# Altium integrated library Resistors.IntLib: 4954 symbols (part 27 of 32)
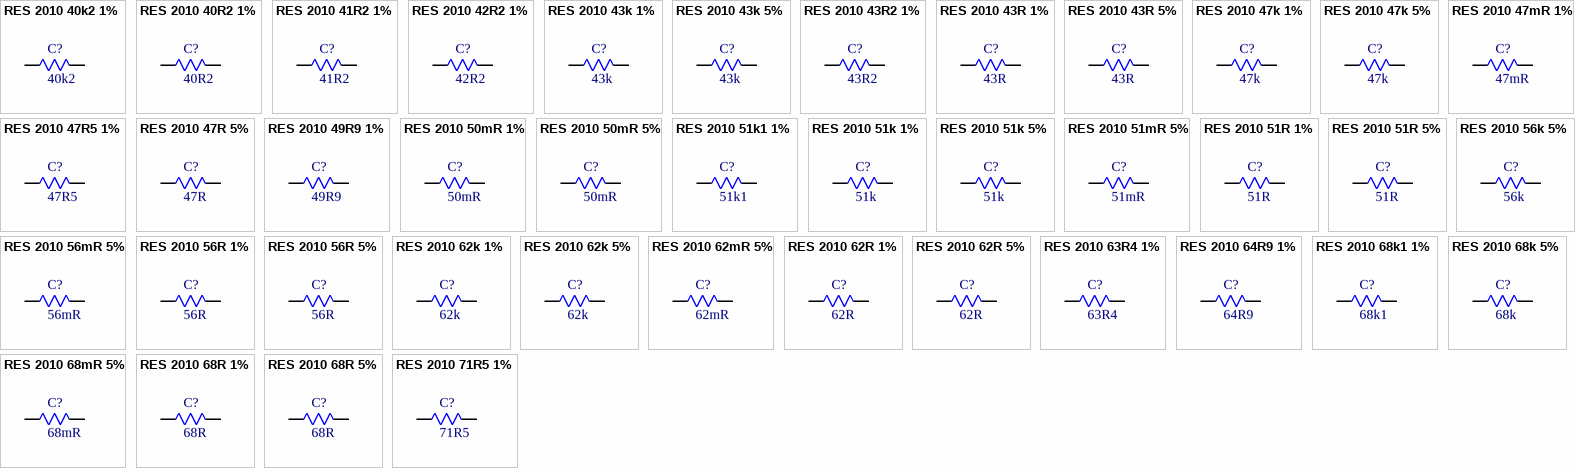
[diagram p149: symbols RES 2010 40k2 1% to RES 2010 71R5 1%]

## RES 2010 40k2 1%
designator C?, comment 40k2
40.2kR 1% 750mW 2010 Thick Film Resistor; Manufacturer: FOJAN; Manufacturer Part Number: FRC2010F4022TS; Voltage Rating: 200V; Supplier: LCSC; Supplier Part Number: C5154002; Resistance: 40k2; Tolerance: 1%; Power: 750mW
footprint RES SMD 2010
pins: 1, 2

## RES 2010 40R2 1%
designator C?, comment 40R2
750mW 40.2R 200V Thick Film Resistor 1% 2010 Chip Resistor - Surface Mount RoHS; Manufacturer: FOJAN; Manufacturer Part Number: FRC2010F40R2TS; Supplier: LCSC; Supplier Part Number: C51048332; Resistance: 40R2; Tolerance: 1%; Voltage Rating: 200V; Power: 750mW
footprint RES SMD 2010
pins: 1, 2

## RES 2010 41R2 1%
designator C?, comment 41R2
41.2R 1% 750mW 2010 Thick Film Resistor; Manufacturer: FOJAN; Manufacturer Part Number: FRC2010F41R2TS; Voltage Rating: 200V; Supplier: LCSC; Supplier Part Number: C3013308; Resistance: 41R2; Tolerance: 1%; Power: 750mW
footprint RES SMD 2010
pins: 1, 2

## RES 2010 42R2 1%
designator C?, comment 42R2
42.2R 750mW 200V Thick Film Resistor 100ppm/â„ƒ 1% 2010 Chip Resistor - Surface Mount RoHS; Manufacturer: FOJAN; Manufacturer Part Number: FRC2010F42R2TS; Supplier: LCSC; Supplier Part Number: C48533786; Resistance: 42R2; Tolerance: 1%; Voltage Rating: 200V; Power: 750mW
footprint RES SMD 2010
pins: 1, 2

## RES 2010 43k 1%
designator C?, comment 43k
43kR 1% 750mW 2010 Thick Film Resistor; Manufacturer: FOJAN; Manufacturer Part Number: FRC2010F4302TS; Voltage Rating: 200V; Supplier: LCSC; Supplier Part Number: C5713369; Resistance: 43k; Tolerance: 1%; Power: 750mW
footprint RES SMD 2010
pins: 1, 2

## RES 2010 43k 5%
designator C?, comment 43k
43kR 5% 750mW 2010 Thick Film Resistor; Manufacturer: FOJAN; Manufacturer Part Number: FRC2010J433 TS; Voltage Rating: 200V; Supplier: LCSC; Supplier Part Number: C5126030; Resistance: 43k; Tolerance: 5%; Power: 750mW
footprint RES SMD 2010
pins: 1, 2

## RES 2010 43R2 1%
designator C?, comment 43R2
43.2R 750mW 200V Thick Film Resistor 1% 2010 Chip Resistor - Surface Mount RoHS; Manufacturer: FOJAN; Manufacturer Part Number: FRC2010F43R2TS; Supplier: LCSC; Supplier Part Number: C51048132; Resistance: 43R2; Tolerance: 1%; Voltage Rating: 200V; Power: 750mW
footprint RES SMD 2010
pins: 1, 2

## RES 2010 43R 1%
designator C?, comment 43R
750mW 43R 200V Thick Film Resistor 1% 100ppm/â„ƒ 2010 Chip Resistor - Surface Mount RoHS; Manufacturer: FOJAN; Manufacturer Part Number: FRC2010F43R0TS; Supplier: LCSC; Supplier Part Number: C7467404; Resistance: 43R; Tolerance: 1%; Voltage Rating: 200V; Power: 750mW
footprint RES SMD 2010
pins: 1, 2

## RES 2010 43R 5%
designator C?, comment 43R
43R 5% 750mW 2010 Thick Film Resistor; Manufacturer: FOJAN; Manufacturer Part Number: FRC2010J430 TS; Voltage Rating: 200V; Supplier: LCSC; Supplier Part Number: C2960826; Resistance: 43R; Tolerance: 5%; Power: 750mW
footprint RES SMD 2010
pins: 1, 2

## RES 2010 47k 1%
designator C?, comment 47k
47kR 1% 750mW 2010 Thick Film Resistor; Manufacturer: FOJAN; Manufacturer Part Number: FRC2010F4702TS; Voltage Rating: 200V; Supplier: LCSC; Supplier Part Number: C3000551; Resistance: 47k; Tolerance: 1%; Power: 750mW
footprint RES SMD 2010
pins: 1, 2

## RES 2010 47k 5%
designator C?, comment 47k
47kR 5% 750mW 2010 Thick Film Resistor; Manufacturer: FOJAN; Manufacturer Part Number: FRC2010J473 TS; Voltage Rating: 200V; Supplier: LCSC; Supplier Part Number: C2960778; Resistance: 47k; Tolerance: 5%; Power: 750mW
footprint RES SMD 2010
pins: 1, 2

## RES 2010 47mR 1%
designator C?, comment 47mR
47mR 750mW Thick Film Resistor 1200ppm/â„ƒ 1% 2010 Chip Resistor - Surface Mount RoHS; Manufacturer: FOJAN; Manufacturer Part Number: FRL2010FR047TS; Supplier: LCSC; Supplier Part Number: C7467486; Resistance: 47mR; Tolerance: 1%; Power: 750mW
footprint RES SMD 2010
pins: 1, 2

## RES 2010 47R5 1%
designator C?, comment 47R5
750mW 47.5R 200V Thick Film Resistor 1% 2010 Chip Resistor - Surface Mount RoHS; Manufacturer: FOJAN; Manufacturer Part Number: FRC2010F47R5TS; Supplier: LCSC; Supplier Part Number: C51048230; Resistance: 47R5; Tolerance: 1%; Voltage Rating: 200V; Power: 750mW
footprint RES SMD 2010
pins: 1, 2

## RES 2010 47R 5%
designator C?, comment 47R
47R 5% 750mW 2010 Thick Film Resistor; Manufacturer: FOJAN; Manufacturer Part Number: FRC2010J470 TS; Voltage Rating: 200V; Supplier: LCSC; Supplier Part Number: C2960940; Resistance: 47R; Tolerance: 5%; Power: 750mW
footprint RES SMD 2010
pins: 1, 2

## RES 2010 49R9 1%
designator C?, comment 49R9
49.9R 750mW 200V Thick Film Resistor 1% 100ppm/â„ƒ 2010 Chip Resistor - Surface Mount RoHS; Manufacturer: FOJAN; Manufacturer Part Number: FRC2010F49R9TS; Supplier: LCSC; Supplier Part Number: C7467405; Resistance: 49R9; Tolerance: 1%; Voltage Rating: 200V; Power: 750mW
footprint RES SMD 2010
pins: 1, 2

## RES 2010 50mR 1%
designator C?, comment 50mR
50mR 750mW Thick Film Resistor 1200ppm/â„ƒ 1% 2010 Chip Resistor - Surface Mount RoHS; Manufacturer: FOJAN; Manufacturer Part Number: FRL2010FR050TS; Supplier: LCSC; Supplier Part Number: C7467560; Resistance: 50mR; Tolerance: 1%; Power: 750mW
footprint RES SMD 2010
pins: 1, 2

## RES 2010 50mR 5%
designator C?, comment 50mR
50mR 5% 750mW 2010 Thick Film Resistor; Manufacturer: FOJAN; Manufacturer Part Number: FRL2010JR050TS; Voltage Rating: 500V; Supplier: LCSC; Supplier Part Number: C3000579; Resistance: 50mR; Tolerance: 5%; Power: 750mW
footprint RES SMD 2010
pins: 1, 2

## RES 2010 51k1 1%
designator C?, comment 51k1
51.1kR 750mW 200V Thick Film Resistor 1% 100ppm/â„ƒ 2010 Chip Resistor - Surface Mount RoHS; Manufacturer: FOJAN; Manufacturer Part Number: FRC2010F5112TS; Supplier: LCSC; Supplier Part Number: C7467350; Resistance: 51k1; Tolerance: 1%; Voltage Rating: 200V; Power: 750mW
footprint RES SMD 2010
pins: 1, 2

## RES 2010 51k 1%
designator C?, comment 51k
750mW 51kR 200V Thick Film Resistor 1% 2010 Chip Resistor - Surface Mount RoHS; Manufacturer: FOJAN; Manufacturer Part Number: FRC2010F5102TS; Supplier: LCSC; Supplier Part Number: C51048225; Resistance: 51k; Tolerance: 1%; Voltage Rating: 200V; Power: 750mW
footprint RES SMD 2010
pins: 1, 2

## RES 2010 51k 5%
designator C?, comment 51k
51kR 5% 750mW 2010 Thick Film Resistor; Manufacturer: FOJAN; Manufacturer Part Number: FRC2010J513 TS; Voltage Rating: 200V; Supplier: LCSC; Supplier Part Number: C2934033; Resistance: 51k; Tolerance: 5%; Power: 750mW
footprint RES SMD 2010
pins: 1, 2

## RES 2010 51mR 5%
designator C?, comment 51mR
51mR 5% 750mW 2010 Thick Film Resistor; Manufacturer: FOJAN; Manufacturer Part Number: FRL2010JR051TS; Voltage Rating: 500V; Supplier: LCSC; Supplier Part Number: C5713408; Resistance: 51mR; Tolerance: 5%; Power: 750mW
footprint RES SMD 2010
pins: 1, 2

## RES 2010 51R 1%
designator C?, comment 51R
51R 1% 750mW 2010 Thick Film Resistor; Manufacturer: FOJAN; Manufacturer Part Number: FRC2010F51R0TS; Voltage Rating: 200V; Supplier: LCSC; Supplier Part Number: C3000766; Resistance: 51R; Tolerance: 1%; Power: 750mW
footprint RES SMD 2010
pins: 1, 2

## RES 2010 51R 5%
designator C?, comment 51R
51R 5% 750mW 2010 Thick Film Resistor; Manufacturer: FOJAN; Manufacturer Part Number: FRC2010J510TS; Voltage Rating: 200V; Supplier: LCSC; Supplier Part Number: C2930454; Resistance: 51R; Tolerance: 5%; Power: 750mW
footprint RES SMD 2010
pins: 1, 2

## RES 2010 56k 5%
designator C?, comment 56k
56kR 5% 750mW 2010 Thick Film Resistor; Manufacturer: FOJAN; Manufacturer Part Number: FRC2010J563 TS; Voltage Rating: 200V; Supplier: LCSC; Supplier Part Number: C2960817; Resistance: 56k; Tolerance: 5%; Power: 750mW
footprint RES SMD 2010
pins: 1, 2

## RES 2010 56mR 5%
designator C?, comment 56mR
56mR 5% 750mW 2010 Thick Film Resistor; Manufacturer: FOJAN; Manufacturer Part Number: FRL2010JR056TS; Voltage Rating: 500V; Supplier: LCSC; Supplier Part Number: C3000578; Resistance: 56mR; Tolerance: 5%; Power: 750mW
footprint RES SMD 2010
pins: 1, 2

## RES 2010 56R 1%
designator C?, comment 56R
56R 750mW 200V Thick Film Resistor 1% 100ppm/â„ƒ 2010 Chip Resistor - Surface Mount RoHS; Manufacturer: FOJAN; Manufacturer Part Number: FRC2010F56R0TS; Supplier: LCSC; Supplier Part Number: C7467351; Resistance: 56R; Tolerance: 1%; Voltage Rating: 200V; Power: 750mW
footprint RES SMD 2010
pins: 1, 2

## RES 2010 56R 5%
designator C?, comment 56R
56R 5% 750mW 2010 Thick Film Resistor; Manufacturer: FOJAN; Manufacturer Part Number: FRC2010J560TS; Voltage Rating: 200V; Supplier: LCSC; Supplier Part Number: C2930455; Resistance: 56R; Tolerance: 5%; Power: 750mW
footprint RES SMD 2010
pins: 1, 2

## RES 2010 62k 1%
designator C?, comment 62k
750mW 62kR 200V Thick Film Resistor 1% 2010 Chip Resistor - Surface Mount RoHS; Manufacturer: FOJAN; Manufacturer Part Number: FRC2010F6202TS; Supplier: LCSC; Supplier Part Number: C51048130; Resistance: 62k; Tolerance: 1%; Voltage Rating: 200V; Power: 750mW
footprint RES SMD 2010
pins: 1, 2

## RES 2010 62k 5%
designator C?, comment 62k
62kR 5% 750mW 2010 Thick Film Resistor; Manufacturer: FOJAN; Manufacturer Part Number: FRC2010J623 TS; Voltage Rating: 200V; Supplier: LCSC; Supplier Part Number: C5713373; Resistance: 62k; Tolerance: 5%; Power: 750mW
footprint RES SMD 2010
pins: 1, 2

## RES 2010 62mR 5%
designator C?, comment 62mR
62mR 5% 750mW 2010 Thick Film Resistor; Manufacturer: FOJAN; Manufacturer Part Number: FRL2010JR062TS; Voltage Rating: 500V; Supplier: LCSC; Supplier Part Number: C5713409; Resistance: 62mR; Tolerance: 5%; Power: 750mW
footprint RES SMD 2010
pins: 1, 2

## RES 2010 62R 1%
designator C?, comment 62R
62R 1% 750mW 2010 Thick Film Resistor; Manufacturer: FOJAN; Manufacturer Part Number: FRC2010F62R0TS; Voltage Rating: 200V; Supplier: LCSC; Supplier Part Number: C2933990; Resistance: 62R; Tolerance: 1%; Power: 750mW
footprint RES SMD 2010
pins: 1, 2

## RES 2010 62R 5%
designator C?, comment 62R
62R 5% 750mW 2010 Thick Film Resistor; Manufacturer: FOJAN; Manufacturer Part Number: FRC2010J620TS; Voltage Rating: 200V; Supplier: LCSC; Supplier Part Number: C3000680; Resistance: 62R; Tolerance: 5%; Power: 750mW
footprint RES SMD 2010
pins: 1, 2

## RES 2010 63R4 1%
designator C?, comment 63R4
63.4R 1% 750mW 2010 Thick Film Resistor; Manufacturer: FOJAN; Manufacturer Part Number: FRC2010F63R4TS; Voltage Rating: 200V; Supplier: LCSC; Supplier Part Number: C2933991; Resistance: 63R4; Tolerance: 1%; Power: 750mW
footprint RES SMD 2010
pins: 1, 2

## RES 2010 64R9 1%
designator C?, comment 64R9
750mW 64.9R 200V Thick Film Resistor 1% 2010 Chip Resistor - Surface Mount RoHS; Manufacturer: FOJAN; Manufacturer Part Number: FRC2010F64R9TS; Supplier: LCSC; Supplier Part Number: C51048207; Resistance: 64R9; Tolerance: 1%; Voltage Rating: 200V; Power: 750mW
footprint RES SMD 2010
pins: 1, 2

## RES 2010 68k1 1%
designator C?, comment 68k1
68.1kR 1% 750mW 2010 Thick Film Resistor; Manufacturer: FOJAN; Manufacturer Part Number: FRC2010F6812TS; Voltage Rating: 200V; Supplier: LCSC; Supplier Part Number: C42372195; Resistance: 68k1; Tolerance: 1%; Power: 750mW
footprint RES SMD 2010
pins: 1, 2

## RES 2010 68k 5%
designator C?, comment 68k
68kR 5% 750mW 2010 Thick Film Resistor; Manufacturer: FOJAN; Manufacturer Part Number: FRC2010J683TS; Voltage Rating: 200V; Supplier: LCSC; Supplier Part Number: C3000707; Resistance: 68k; Tolerance: 5%; Power: 750mW
footprint RES SMD 2010
pins: 1, 2

## RES 2010 68mR 5%
designator C?, comment 68mR
68mR 5% 750mW 2010 Thick Film Resistor; Manufacturer: FOJAN; Manufacturer Part Number: FRL2010JR068TS; Voltage Rating: 500V; Supplier: LCSC; Supplier Part Number: C2974128; Resistance: 68mR; Tolerance: 5%; Power: 750mW
footprint RES SMD 2010
pins: 1, 2

## RES 2010 68R 1%
designator C?, comment 68R
68R 1% 750mW 2010 Thick Film Resistor; Manufacturer: FOJAN; Manufacturer Part Number: FRC2010F68R0TS; Voltage Rating: 200V; Supplier: LCSC; Supplier Part Number: C3000767; Resistance: 68R; Tolerance: 1%; Power: 750mW
footprint RES SMD 2010
pins: 1, 2

## RES 2010 68R 5%
designator C?, comment 68R
68R 5% 750mW 2010 Thick Film Resistor; Manufacturer: FOJAN; Manufacturer Part Number: FRC2010J680 TS; Voltage Rating: 200V; Supplier: LCSC; Supplier Part Number: C2907565; Resistance: 68R; Tolerance: 5%; Power: 750mW
footprint RES SMD 2010
pins: 1, 2

## RES 2010 71R5 1%
designator C?, comment 71R5
71.5R 1% 750mW 2010 Thick Film Resistor; Manufacturer: FOJAN; Manufacturer Part Number: FRC2010F71R5TS; Voltage Rating: 200V; Supplier: LCSC; Supplier Part Number: C3013312; Resistance: 71R5; Tolerance: 1%; Power: 750mW
footprint RES SMD 2010
pins: 1, 2

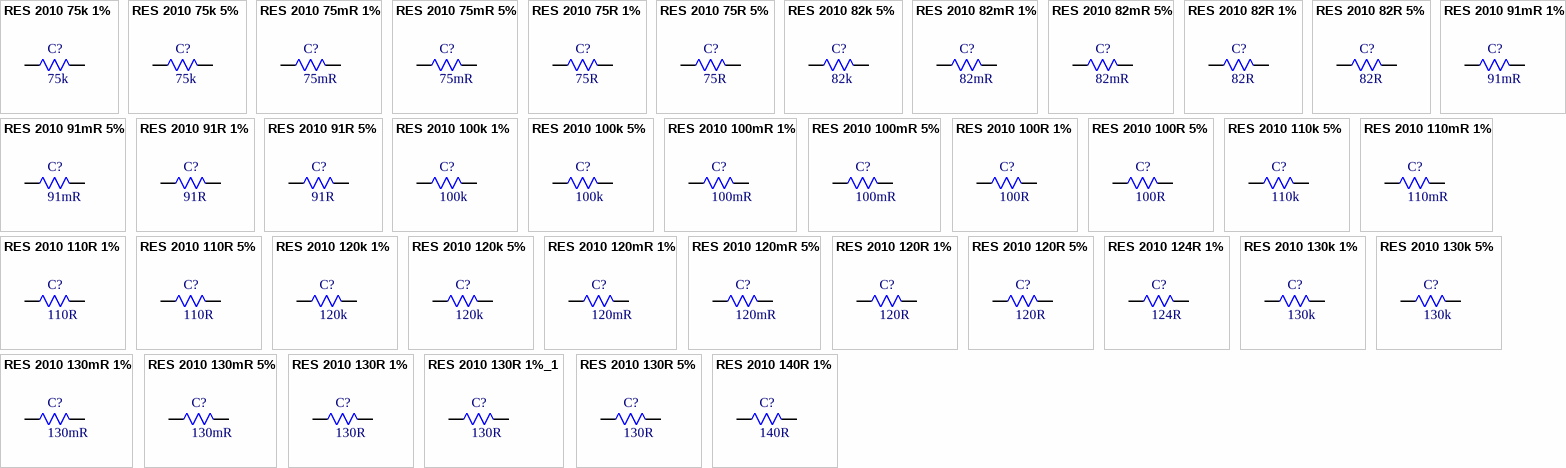
[diagram p105: symbols RES 2010 75k 1% to RES 2010 140R 1%]

## RES 2010 75k 1%
designator C?, comment 75k
750mW 75kR 200V Thick Film Resistor 100ppm/â„ƒ 1% 2010 Chip Resistor - Surface Mount RoHS; Manufacturer: FOJAN; Manufacturer Part Number: FRC2010F7502TS; Supplier: LCSC; Supplier Part Number: C48533782; Resistance: 75k; Tolerance: 1%; Voltage Rating: 200V; Power: 750mW
footprint RES SMD 2010
pins: 1, 2

## RES 2010 75k 5%
designator C?, comment 75k
75kR 5% 750mW 2010 Thick Film Resistor; Manufacturer: FOJAN; Manufacturer Part Number: FRC2010J753 TS; Voltage Rating: 200V; Supplier: LCSC; Supplier Part Number: C2934039; Resistance: 75k; Tolerance: 5%; Power: 750mW
footprint RES SMD 2010
pins: 1, 2

## RES 2010 75mR 1%
designator C?, comment 75mR
75mR 1% 750mW 2010 Thick Film Resistor; Manufacturer: FOJAN; Manufacturer Part Number: FRL2010FR075TS; Voltage Rating: 500V; Supplier: LCSC; Supplier Part Number: C5204050; Resistance: 75mR; Tolerance: 1%; Power: 750mW
footprint RES SMD 2010
pins: 1, 2

## RES 2010 75mR 5%
designator C?, comment 75mR
75mR 5% 750mW 2010 Thick Film Resistor; Manufacturer: FOJAN; Manufacturer Part Number: FRL2010JR075TS; Voltage Rating: 500V; Supplier: LCSC; Supplier Part Number: C5713410; Resistance: 75mR; Tolerance: 5%; Power: 750mW
footprint RES SMD 2010
pins: 1, 2

## RES 2010 75R 1%
designator C?, comment 75R
75R 1% 750mW 2010 Thick Film Resistor; Manufacturer: FOJAN; Manufacturer Part Number: FRC2010F75R0TS; Voltage Rating: 200V; Supplier: LCSC; Supplier Part Number: C2933992; Resistance: 75R; Tolerance: 1%; Power: 750mW
footprint RES SMD 2010
pins: 1, 2

## RES 2010 75R 5%
designator C?, comment 75R
75R 5% 750mW 2010 Thick Film Resistor; Manufacturer: FOJAN; Manufacturer Part Number: FRC2010J750 TS; Voltage Rating: 200V; Supplier: LCSC; Supplier Part Number: C3013317; Resistance: 75R; Tolerance: 5%; Power: 750mW
footprint RES SMD 2010
pins: 1, 2

## RES 2010 82k 5%
designator C?, comment 82k
82kR 5% 750mW 2010 Thick Film Resistor; Manufacturer: FOJAN; Manufacturer Part Number: FRC2010J823 TS; Voltage Rating: 200V; Supplier: LCSC; Supplier Part Number: C2960908; Resistance: 82k; Tolerance: 5%; Power: 750mW
footprint RES SMD 2010
pins: 1, 2

## RES 2010 82mR 1%
designator C?, comment 82mR
82mR 750mW Thick Film Resistor 600ppm/â„ƒ 1% 2010 Chip Resistor - Surface Mount RoHS; Manufacturer: FOJAN; Manufacturer Part Number: FRL2010FR082TS; Supplier: LCSC; Supplier Part Number: C7467699; Resistance: 82mR; Tolerance: 1%; Power: 750mW
footprint RES SMD 2010
pins: 1, 2

## RES 2010 82mR 5%
designator C?, comment 82mR
82mR 5% 750mW 2010 Thick Film Resistor; Manufacturer: FOJAN; Manufacturer Part Number: FRL2010JR082TS; Voltage Rating: 500V; Supplier: LCSC; Supplier Part Number: C5126035; Resistance: 82mR; Tolerance: 5%; Power: 750mW
footprint RES SMD 2010
pins: 1, 2

## RES 2010 82R 1%
designator C?, comment 82R
82R 1% 750mW 2010 Thick Film Resistor; Manufacturer: FOJAN; Manufacturer Part Number: FRC2010F82R0TS; Voltage Rating: 200V; Supplier: LCSC; Supplier Part Number: C3000556; Resistance: 82R; Tolerance: 1%; Power: 750mW
footprint RES SMD 2010
pins: 1, 2

## RES 2010 82R 5%
designator C?, comment 82R
82R 5% 750mW 2010 Thick Film Resistor; Manufacturer: FOJAN; Manufacturer Part Number: FRC2010J820TS; Voltage Rating: 200V; Supplier: LCSC; Supplier Part Number: C3000624; Resistance: 82R; Tolerance: 5%; Power: 750mW
footprint RES SMD 2010
pins: 1, 2

## RES 2010 91mR 1%
designator C?, comment 91mR
750mW 91mR Thick Film Resistor 600ppm/â„ƒ 1% 2010 Chip Resistor - Surface Mount RoHS; Manufacturer: FOJAN; Manufacturer Part Number: FRL2010FR091TS; Supplier: LCSC; Supplier Part Number: C7467687; Resistance: 91mR; Tolerance: 1%; Power: 750mW
footprint RES SMD 2010
pins: 1, 2

## RES 2010 91mR 5%
designator C?, comment 91mR
91mR 5% 750mW 2010 Thick Film Resistor; Manufacturer: FOJAN; Manufacturer Part Number: FRL2010JR091TS; Voltage Rating: 500V; Supplier: LCSC; Supplier Part Number: C2974129; Resistance: 91mR; Tolerance: 5%; Power: 750mW
footprint RES SMD 2010
pins: 1, 2

## RES 2010 91R 1%
designator C?, comment 91R
91R 750mW 200V Thick Film Resistor 100ppm/â„ƒ 1% 2010 Chip Resistor - Surface Mount RoHS; Manufacturer: FOJAN; Manufacturer Part Number: FRC2010F91R0TS; Supplier: LCSC; Supplier Part Number: C19267407; Resistance: 91R; Tolerance: 1%; Voltage Rating: 200V; Power: 750mW
footprint RES SMD 2010
pins: 1, 2

## RES 2010 91R 5%
designator C?, comment 91R
91R 5% 750mW 2010 Thick Film Resistor; Manufacturer: FOJAN; Manufacturer Part Number: FRC2010J910 TS; Voltage Rating: 200V; Supplier: LCSC; Supplier Part Number: C2934041; Resistance: 91R; Tolerance: 5%; Power: 750mW
footprint RES SMD 2010
pins: 1, 2

## RES 2010 100k 1%
designator C?, comment 100k
100kR 1% 750mW 2010 Thick Film Resistor; Manufacturer: FOJAN; Manufacturer Part Number: FRC2010F1003TS; Voltage Rating: 200V; Supplier: LCSC; Supplier Part Number: C2974088; Resistance: 100k; Tolerance: 1%; Power: 750mW
footprint RES SMD 2010
pins: 1, 2

## RES 2010 100k 5%
designator C?, comment 100k
100kR 5% 750mW 2010 Thick Film Resistor; Manufacturer: FOJAN; Manufacturer Part Number: FRC2010J104 TS; Voltage Rating: 200V; Supplier: LCSC; Supplier Part Number: C2907557; Resistance: 100k; Tolerance: 5%; Power: 750mW
footprint RES SMD 2010
pins: 1, 2

## RES 2010 100mR 1%
designator C?, comment 100mR
100mR 1% 750mW 2010 Thick Film Resistor; Manufacturer: FOJAN; Manufacturer Part Number: FRL2010FR100TS; Voltage Rating: 500V; Supplier: LCSC; Supplier Part Number: C2999624; Resistance: 100mR; Tolerance: 1%; Power: 750mW
footprint RES SMD 2010
pins: 1, 2

## RES 2010 100mR 5%
designator C?, comment 100mR
100mR 5% 750mW 2010 Thick Film Resistor; Manufacturer: FOJAN; Manufacturer Part Number: FRL2010JR100TS; Voltage Rating: 500V; Supplier: LCSC; Supplier Part Number: C2934356; Resistance: 100mR; Tolerance: 5%; Power: 750mW
footprint RES SMD 2010
pins: 1, 2

## RES 2010 100R 1%
designator C?, comment 100R
100R 1% 750mW 2010 Thick Film Resistor; Manufacturer: FOJAN; Manufacturer Part Number: FRC2010F1000TS; Voltage Rating: 200V; Supplier: LCSC; Supplier Part Number: C2974086; Resistance: 100R; Tolerance: 1%; Power: 750mW
footprint RES SMD 2010
pins: 1, 2

## RES 2010 100R 5%
designator C?, comment 100R
100R 5% 750mW 2010 Thick Film Resistor; Manufacturer: FOJAN; Manufacturer Part Number: FRC2010J101 TS; Voltage Rating: 200V; Supplier: LCSC; Supplier Part Number: C2907558; Resistance: 100R; Tolerance: 5%; Power: 750mW
footprint RES SMD 2010
pins: 1, 2

## RES 2010 110k 5%
designator C?, comment 110k
110kR 5% 750mW 2010 Thick Film Resistor; Manufacturer: FOJAN; Manufacturer Part Number: FRC2010J114TS; Voltage Rating: 200V; Supplier: LCSC; Supplier Part Number: C5379848; Resistance: 110k; Tolerance: 5%; Power: 750mW
footprint RES SMD 2010
pins: 1, 2

## RES 2010 110mR 1%
designator C?, comment 110mR
110mR 1% 750mW 2010 Thick Film Resistor; Manufacturer: FOJAN; Manufacturer Part Number: FRL2010FR110TS; Voltage Rating: 500V; Supplier: LCSC; Supplier Part Number: C2934351; Resistance: 110mR; Tolerance: 1%; Power: 750mW
footprint RES SMD 2010
pins: 1, 2

## RES 2010 110R 1%
designator C?, comment 110R
110R 1% 750mW 2010 Thick Film Resistor; Manufacturer: FOJAN; Manufacturer Part Number: FRC2010F1100TS; Voltage Rating: 200V; Supplier: LCSC; Supplier Part Number: C2960847; Resistance: 110R; Tolerance: 1%; Power: 750mW
footprint RES SMD 2010
pins: 1, 2

## RES 2010 110R 5%
designator C?, comment 110R
110R 5% 750mW 2010 Thick Film Resistor; Manufacturer: FOJAN; Manufacturer Part Number: FRC2010J111 TS; Voltage Rating: 200V; Supplier: LCSC; Supplier Part Number: C3013313; Resistance: 110R; Tolerance: 5%; Power: 750mW
footprint RES SMD 2010
pins: 1, 2

## RES 2010 120k 1%
designator C?, comment 120k
120kR 1% 750mW 2010 Thick Film Resistor; Manufacturer: FOJAN; Manufacturer Part Number: FRC2010F1203TS; Voltage Rating: 200V; Supplier: LCSC; Supplier Part Number: C2933979; Resistance: 120k; Tolerance: 1%; Power: 750mW
footprint RES SMD 2010
pins: 1, 2

## RES 2010 120k 5%
designator C?, comment 120k
120kR 5% 750mW 2010 Thick Film Resistor; Manufacturer: FOJAN; Manufacturer Part Number: FRC2010J124 TS; Voltage Rating: 200V; Supplier: LCSC; Supplier Part Number: C2933996; Resistance: 120k; Tolerance: 5%; Power: 750mW
footprint RES SMD 2010
pins: 1, 2

## RES 2010 120mR 1%
designator C?, comment 120mR
120mR 1% 750mW 2010 Thick Film Resistor; Manufacturer: FOJAN; Manufacturer Part Number: FRL2010FR120TS; Voltage Rating: 500V; Supplier: LCSC; Supplier Part Number: C3000597; Resistance: 120mR; Tolerance: 1%; Power: 750mW
footprint RES SMD 2010
pins: 1, 2

## RES 2010 120mR 5%
designator C?, comment 120mR
120mR 5% 750mW 2010 Thick Film Resistor; Manufacturer: FOJAN; Manufacturer Part Number: FRL2010JR120TS; Voltage Rating: 500V; Supplier: LCSC; Supplier Part Number: C3000625; Resistance: 120mR; Tolerance: 5%; Power: 750mW
footprint RES SMD 2010
pins: 1, 2

## RES 2010 120R 1%
designator C?, comment 120R
120R 1% 750mW 2010 Thick Film Resistor; Manufacturer: FOJAN; Manufacturer Part Number: FRC2010F1200TS; Voltage Rating: 200V; Supplier: LCSC; Supplier Part Number: C2974089; Resistance: 120R; Tolerance: 1%; Power: 750mW
footprint RES SMD 2010
pins: 1, 2

## RES 2010 120R 5%
designator C?, comment 120R
120R 5% 750mW 2010 Thick Film Resistor; Manufacturer: FOJAN; Manufacturer Part Number: FRC2010J121 TS; Voltage Rating: 200V; Supplier: LCSC; Supplier Part Number: C2960839; Resistance: 120R; Tolerance: 5%; Power: 750mW
footprint RES SMD 2010
pins: 1, 2

## RES 2010 124R 1%
designator C?, comment 124R
124R 1% 750mW 2010 Thick Film Resistor; Manufacturer: FOJAN; Manufacturer Part Number: FRC2010F1240TS; Voltage Rating: 200V; Supplier: LCSC; Supplier Part Number: C5159753; Resistance: 124R; Tolerance: 1%; Power: 750mW
footprint RES SMD 2010
pins: 1, 2

## RES 2010 130k 1%
designator C?, comment 130k
130kR 1% 750mW 2010 Thick Film Resistor; Manufacturer: FOJAN; Manufacturer Part Number: FRC2010F1303TS; Voltage Rating: 200V; Supplier: LCSC; Supplier Part Number: C5713362; Resistance: 130k; Tolerance: 1%; Power: 750mW
footprint RES SMD 2010
pins: 1, 2

## RES 2010 130k 5%
designator C?, comment 130k
130kR 5% 750mW 2010 Thick Film Resistor; Manufacturer: FOJAN; Manufacturer Part Number: FRC2010J134 TS; Voltage Rating: 200V; Supplier: LCSC; Supplier Part Number: C5126186; Resistance: 130k; Tolerance: 5%; Power: 750mW
footprint RES SMD 2010
pins: 1, 2

## RES 2010 130mR 1%
designator C?, comment 130mR
130mR 1% 750mW 2010 Thick Film Resistor; Manufacturer: FOJAN; Manufacturer Part Number: FRL2010FR130TS; Voltage Rating: 500V; Supplier: LCSC; Supplier Part Number: C2999525; Resistance: 130mR; Tolerance: 1%; Power: 750mW
footprint RES SMD 2010
pins: 1, 2

## RES 2010 130mR 5%
designator C?, comment 130mR
130mR 5% 750mW 2010 Thick Film Resistor; Manufacturer: FOJAN; Manufacturer Part Number: FRL2010JR130TS; Voltage Rating: 500V; Supplier: LCSC; Supplier Part Number: C2934357; Resistance: 130mR; Tolerance: 5%; Power: 750mW
footprint RES SMD 2010
pins: 1, 2

## RES 2010 130R 1%
designator C?, comment 130R
750mW 130R 200V Thick Film Resistor 1% 2010 Chip Resistor - Surface Mount RoHS; Manufacturer: FOJAN; Manufacturer Part Number: FRQ2010F1300TS; Supplier: LCSC; Supplier Part Number: C51048296; Resistance: 130R; Tolerance: 1%; Voltage Rating: 200V; Power: 750mW
footprint RES SMD 2010
pins: 1, 2

## RES 2010 130R 1%_1
designator C?, comment 130R
130R 1% 750mW 2010 Thick Film Resistor; Manufacturer: FOJAN; Manufacturer Part Number: FRC2010F1300TS; Voltage Rating: 200V; Supplier: LCSC; Supplier Part Number: C2933980; Resistance: 130R; Tolerance: 1%; Power: 750mW
footprint RES SMD 2010
pins: 1, 2

## RES 2010 130R 5%
designator C?, comment 130R
130R 5% 750mW 2010 Thick Film Resistor; Manufacturer: FOJAN; Manufacturer Part Number: FRC2010J131 TS; Voltage Rating: 200V; Supplier: LCSC; Supplier Part Number: C2933997; Resistance: 130R; Tolerance: 5%; Power: 750mW
footprint RES SMD 2010
pins: 1, 2

## RES 2010 140R 1%
designator C?, comment 140R
750mW 140R 200V Thick Film Resistor 1% 2010 Chip Resistor - Surface Mount RoHS; Manufacturer: FOJAN; Manufacturer Part Number: FRC2010F1400TS; Supplier: LCSC; Supplier Part Number: C51048134; Resistance: 140R; Tolerance: 1%; Voltage Rating: 200V; Power: 750mW
footprint RES SMD 2010
pins: 1, 2

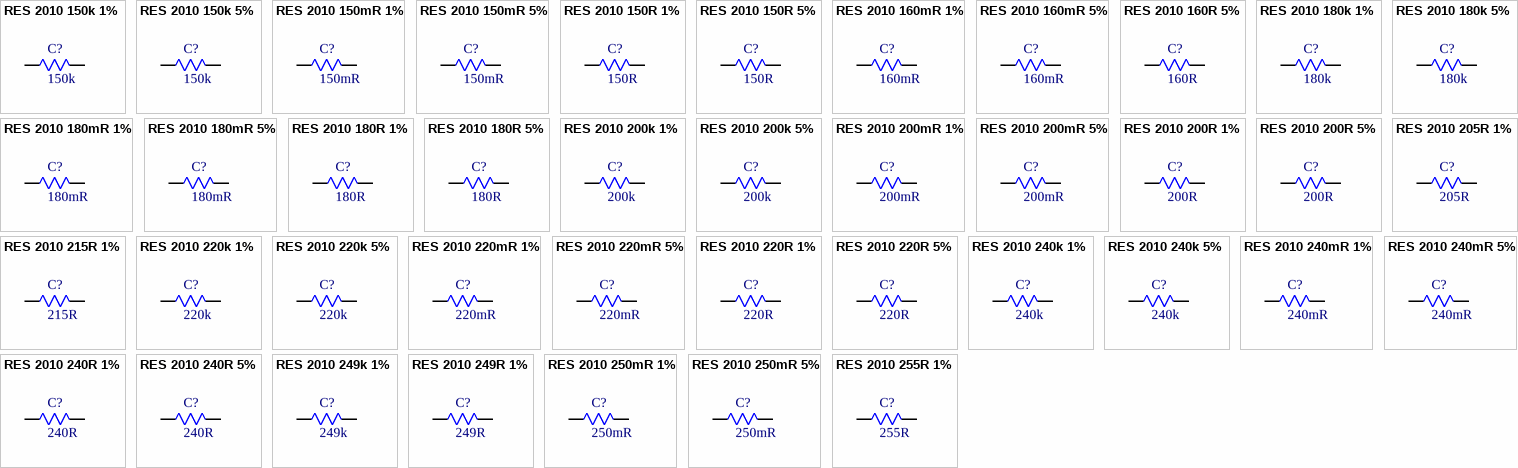
[diagram p106: symbols RES 2010 150k 1% to RES 2010 255R 1%]

## RES 2010 150k 1%
designator C?, comment 150k
150kR 1% 750mW 2010 Thick Film Resistor; Manufacturer: FOJAN; Manufacturer Part Number: FRC2010F1503TS; Voltage Rating: 200V; Supplier: LCSC; Supplier Part Number: C2933983; Resistance: 150k; Tolerance: 1%; Power: 750mW
footprint RES SMD 2010
pins: 1, 2

## RES 2010 150k 5%
designator C?, comment 150k
150kR 5% 750mW 2010 Thick Film Resistor; Manufacturer: FOJAN; Manufacturer Part Number: FRC2010J154 TS; Voltage Rating: 200V; Supplier: LCSC; Supplier Part Number: C2933999; Resistance: 150k; Tolerance: 5%; Power: 750mW
footprint RES SMD 2010
pins: 1, 2

## RES 2010 150mR 1%
designator C?, comment 150mR
150mR 1% 750mW 2010 Thick Film Resistor; Manufacturer: FOJAN; Manufacturer Part Number: FRL2010FR150TS; Voltage Rating: 500V; Supplier: LCSC; Supplier Part Number: C5126190; Resistance: 150mR; Tolerance: 1%; Power: 750mW
footprint RES SMD 2010
pins: 1, 2

## RES 2010 150mR 5%
designator C?, comment 150mR
150mR 5% 750mW 2010 Thick Film Resistor; Manufacturer: FOJAN; Manufacturer Part Number: FRL2010JR150TS; Voltage Rating: 500V; Supplier: LCSC; Supplier Part Number: C2960694; Resistance: 150mR; Tolerance: 5%; Power: 750mW
footprint RES SMD 2010
pins: 1, 2

## RES 2010 150R 1%
designator C?, comment 150R
150R 1% 750mW 2010 Thick Film Resistor; Manufacturer: FOJAN; Manufacturer Part Number: FRC2010F1500TS; Voltage Rating: 200V; Supplier: LCSC; Supplier Part Number: C2933982; Resistance: 150R; Tolerance: 1%; Power: 750mW
footprint RES SMD 2010
pins: 1, 2

## RES 2010 150R 5%
designator C?, comment 150R
150R 5% 750mW 2010 Thick Film Resistor; Manufacturer: FOJAN; Manufacturer Part Number: FRC2010J151 TS; Voltage Rating: 200V; Supplier: LCSC; Supplier Part Number: C2933998; Resistance: 150R; Tolerance: 5%; Power: 750mW
footprint RES SMD 2010
pins: 1, 2

## RES 2010 160mR 1%
designator C?, comment 160mR
160mR 750mW Thick Film Resistor 600ppm/â„ƒ 1% 2010 Chip Resistor - Surface Mount RoHS; Manufacturer: FOJAN; Manufacturer Part Number: FRL2010FR160TS; Supplier: LCSC; Supplier Part Number: C7467852; Resistance: 160mR; Tolerance: 1%; Power: 750mW
footprint RES SMD 2010
pins: 1, 2

## RES 2010 160mR 5%
designator C?, comment 160mR
160mR 5% 750mW 2010 Thick Film Resistor; Manufacturer: FOJAN; Manufacturer Part Number: FRL2010JR160TS; Voltage Rating: 500V; Supplier: LCSC; Supplier Part Number: C3013367; Resistance: 160mR; Tolerance: 5%; Power: 750mW
footprint RES SMD 2010
pins: 1, 2

## RES 2010 160R 5%
designator C?, comment 160R
160R 5% 750mW 2010 Thick Film Resistor; Manufacturer: FOJAN; Manufacturer Part Number: FRC2010J161 TS; Voltage Rating: 200V; Supplier: LCSC; Supplier Part Number: C2934001; Resistance: 160R; Tolerance: 5%; Power: 750mW
footprint RES SMD 2010
pins: 1, 2

## RES 2010 180k 1%
designator C?, comment 180k
180kR 1% 750mW 2010 Thick Film Resistor; Manufacturer: FOJAN; Manufacturer Part Number: FRC2010F1803TS; Voltage Rating: 200V; Supplier: LCSC; Supplier Part Number: C3013301; Resistance: 180k; Tolerance: 1%; Power: 750mW
footprint RES SMD 2010
pins: 1, 2

## RES 2010 180k 5%
designator C?, comment 180k
180kR 5% 750mW 2010 Thick Film Resistor; Manufacturer: FOJAN; Manufacturer Part Number: FRC2010J184 TS; Voltage Rating: 200V; Supplier: LCSC; Supplier Part Number: C2934004; Resistance: 180k; Tolerance: 5%; Power: 750mW
footprint RES SMD 2010
pins: 1, 2

## RES 2010 180mR 1%
designator C?, comment 180mR
180mR 1% 750mW 2010 Thick Film Resistor; Manufacturer: FOJAN; Manufacturer Part Number: FRL2010FR180TS; Voltage Rating: 500V; Supplier: LCSC; Supplier Part Number: C2934352; Resistance: 180mR; Tolerance: 1%; Power: 750mW
footprint RES SMD 2010
pins: 1, 2

## RES 2010 180mR 5%
designator C?, comment 180mR
180mR 5% 750mW 2010 Thick Film Resistor; Manufacturer: FOJAN; Manufacturer Part Number: FRL2010JR180TS; Voltage Rating: 500V; Supplier: LCSC; Supplier Part Number: C2934358; Resistance: 180mR; Tolerance: 5%; Power: 750mW
footprint RES SMD 2010
pins: 1, 2

## RES 2010 180R 1%
designator C?, comment 180R
180R 1% 750mW 2010 Thick Film Resistor; Manufacturer: FOJAN; Manufacturer Part Number: FRC2010F1800TS; Voltage Rating: 200V; Supplier: LCSC; Supplier Part Number: C5126064; Resistance: 180R; Tolerance: 1%; Power: 750mW
footprint RES SMD 2010
pins: 1, 2

## RES 2010 180R 5%
designator C?, comment 180R
180R 5% 750mW 2010 Thick Film Resistor; Manufacturer: FOJAN; Manufacturer Part Number: FRC2010J181 TS; Voltage Rating: 200V; Supplier: LCSC; Supplier Part Number: C2907560; Resistance: 180R; Tolerance: 5%; Power: 750mW
footprint RES SMD 2010
pins: 1, 2

## RES 2010 200k 1%
designator C?, comment 200k
200kR 1% 750mW 2010 Thick Film Resistor; Manufacturer: FOJAN; Manufacturer Part Number: FRC2010F2003TS; Voltage Rating: 200V; Supplier: LCSC; Supplier Part Number: C2933984; Resistance: 200k; Tolerance: 1%; Power: 750mW
footprint RES SMD 2010
pins: 1, 2

## RES 2010 200k 5%
designator C?, comment 200k
200kR 5% 750mW 2010 Thick Film Resistor; Manufacturer: FOJAN; Manufacturer Part Number: FRC2010J204 TS; Voltage Rating: 200V; Supplier: LCSC; Supplier Part Number: C2960872; Resistance: 200k; Tolerance: 5%; Power: 750mW
footprint RES SMD 2010
pins: 1, 2

## RES 2010 200mR 1%
designator C?, comment 200mR
200mR 1% 750mW 2010 Thick Film Resistor; Manufacturer: FOJAN; Manufacturer Part Number: FRL2010FR200TS; Voltage Rating: 500V; Supplier: LCSC; Supplier Part Number: C3000672; Resistance: 200mR; Tolerance: 1%; Power: 750mW
footprint RES SMD 2010
pins: 1, 2

## RES 2010 200mR 5%
designator C?, comment 200mR
200mR 5% 750mW 2010 Thick Film Resistor; Manufacturer: FOJAN; Manufacturer Part Number: FRL2010JR200TS; Voltage Rating: 500V; Supplier: LCSC; Supplier Part Number: C2960843; Resistance: 200mR; Tolerance: 5%; Power: 750mW
footprint RES SMD 2010
pins: 1, 2

## RES 2010 200R 1%
designator C?, comment 200R
200R 1% 750mW 2010 Thick Film Resistor; Manufacturer: FOJAN; Manufacturer Part Number: FRC2010F2000TS; Voltage Rating: 200V; Supplier: LCSC; Supplier Part Number: C2974095; Resistance: 200R; Tolerance: 1%; Power: 750mW
footprint RES SMD 2010
pins: 1, 2

## RES 2010 200R 5%
designator C?, comment 200R
200R 5% 750mW 2010 Thick Film Resistor; Manufacturer: FOJAN; Manufacturer Part Number: FRC2010J201 TS; Voltage Rating: 200V; Supplier: LCSC; Supplier Part Number: C2960818; Resistance: 200R; Tolerance: 5%; Power: 750mW
footprint RES SMD 2010
pins: 1, 2

## RES 2010 205R 1%
designator C?, comment 205R
205R 750mW 200V Thick Film Resistor 1% 2010 Chip Resistor - Surface Mount RoHS; Manufacturer: FOJAN; Manufacturer Part Number: FRC2010F2050TS; Supplier: LCSC; Supplier Part Number: C52033533; Resistance: 205R; Tolerance: 1%; Voltage Rating: 200V; Power: 750mW
footprint RES SMD 2010
pins: 1, 2

## RES 2010 215R 1%
designator C?, comment 215R
750mW 215R 200V Thick Film Resistor 1% 2010 Chip Resistor - Surface Mount RoHS; Manufacturer: FOJAN; Manufacturer Part Number: FRC2010F2150TS; Supplier: LCSC; Supplier Part Number: C51048123; Resistance: 215R; Tolerance: 1%; Voltage Rating: 200V; Power: 750mW
footprint RES SMD 2010
pins: 1, 2

## RES 2010 220k 1%
designator C?, comment 220k
220kR 1% 750mW 2010 Thick Film Resistor; Manufacturer: FOJAN; Manufacturer Part Number: FRC2010F2203TS; Voltage Rating: 200V; Supplier: LCSC; Supplier Part Number: C2960813; Resistance: 220k; Tolerance: 1%; Power: 750mW
footprint RES SMD 2010
pins: 1, 2

## RES 2010 220k 5%
designator C?, comment 220k
220kR 5% 750mW 2010 Thick Film Resistor; Manufacturer: FOJAN; Manufacturer Part Number: FRC2010J224 TS; Voltage Rating: 200V; Supplier: LCSC; Supplier Part Number: C2934012; Resistance: 220k; Tolerance: 5%; Power: 750mW
footprint RES SMD 2010
pins: 1, 2

## RES 2010 220mR 1%
designator C?, comment 220mR
220mR 1% 750mW 2010 Thick Film Resistor; Manufacturer: FOJAN; Manufacturer Part Number: FRL2010FR220TS; Voltage Rating: 500V; Supplier: LCSC; Supplier Part Number: C2999625; Resistance: 220mR; Tolerance: 1%; Power: 750mW
footprint RES SMD 2010
pins: 1, 2

## RES 2010 220mR 5%
designator C?, comment 220mR
220mR 5% 750mW 2010 Thick Film Resistor; Manufacturer: FOJAN; Manufacturer Part Number: FRL2010JR220TS; Voltage Rating: 500V; Supplier: LCSC; Supplier Part Number: C2960855; Resistance: 220mR; Tolerance: 5%; Power: 750mW
footprint RES SMD 2010
pins: 1, 2

## RES 2010 220R 1%
designator C?, comment 220R
220R 1% 750mW 2010 Thick Film Resistor; Manufacturer: FOJAN; Manufacturer Part Number: FRC2010F2200TS; Voltage Rating: 200V; Supplier: LCSC; Supplier Part Number: C2974097; Resistance: 220R; Tolerance: 1%; Power: 750mW
footprint RES SMD 2010
pins: 1, 2

## RES 2010 220R 5%
designator C?, comment 220R
220R 5% 750mW 2010 Thick Film Resistor; Manufacturer: FOJAN; Manufacturer Part Number: FRC2010J221 TS; Voltage Rating: 200V; Supplier: LCSC; Supplier Part Number: C2974104; Resistance: 220R; Tolerance: 5%; Power: 750mW
footprint RES SMD 2010
pins: 1, 2

## RES 2010 240k 1%
designator C?, comment 240k
240kR 1% 750mW 2010 Thick Film Resistor; Manufacturer: FOJAN; Manufacturer Part Number: FRC2010F2403TS; Voltage Rating: 200V; Supplier: LCSC; Supplier Part Number: C5713366; Resistance: 240k; Tolerance: 1%; Power: 750mW
footprint RES SMD 2010
pins: 1, 2

## RES 2010 240k 5%
designator C?, comment 240k
240kR 5% 750mW 2010 Thick Film Resistor; Manufacturer: FOJAN; Manufacturer Part Number: FRC2010J244 TS; Voltage Rating: 200V; Supplier: LCSC; Supplier Part Number: C5447247; Resistance: 240k; Tolerance: 5%; Power: 750mW
footprint RES SMD 2010
pins: 1, 2

## RES 2010 240mR 1%
designator C?, comment 240mR
240mR 1% 750mW 2010 Thick Film Resistor; Manufacturer: FOJAN; Manufacturer Part Number: FRL2010FR240TS; Voltage Rating: 500V; Supplier: LCSC; Supplier Part Number: C5713406; Resistance: 240mR; Tolerance: 1%; Power: 750mW
footprint RES SMD 2010
pins: 1, 2

## RES 2010 240mR 5%
designator C?, comment 240mR
240mR 5% 750mW 2010 Thick Film Resistor; Manufacturer: FOJAN; Manufacturer Part Number: FRL2010JR240TS; Voltage Rating: 500V; Supplier: LCSC; Supplier Part Number: C3000627; Resistance: 240mR; Tolerance: 5%; Power: 750mW
footprint RES SMD 2010
pins: 1, 2

## RES 2010 240R 1%
designator C?, comment 240R
750mW 240R 200V Thick Film Resistor 100ppm/â„ƒ 1% 2010 Chip Resistor - Surface Mount RoHS; Manufacturer: FOJAN; Manufacturer Part Number: FRC2010F2400TS; Supplier: LCSC; Supplier Part Number: C19268616; Resistance: 240R; Tolerance: 1%; Voltage Rating: 200V; Power: 750mW
footprint RES SMD 2010
pins: 1, 2

## RES 2010 240R 5%
designator C?, comment 240R
240R 5% 750mW 2010 Thick Film Resistor; Manufacturer: FOJAN; Manufacturer Part Number: FRC2010J241 TS; Voltage Rating: 200V; Supplier: LCSC; Supplier Part Number: C2960924; Resistance: 240R; Tolerance: 5%; Power: 750mW
footprint RES SMD 2010
pins: 1, 2

## RES 2010 249k 1%
designator C?, comment 249k
750mW 249kR 200V Thick Film Resistor 1% 2010 Chip Resistor - Surface Mount RoHS; Manufacturer: FOJAN; Manufacturer Part Number: FRC2010F2493TS; Supplier: LCSC; Supplier Part Number: C51048288; Resistance: 249k; Tolerance: 1%; Voltage Rating: 200V; Power: 750mW
footprint RES SMD 2010
pins: 1, 2

## RES 2010 249R 1%
designator C?, comment 249R
249R 1% 750mW 2010 Thick Film Resistor; Manufacturer: FOJAN; Manufacturer Part Number: FRC2010F2490TS; Voltage Rating: 200V; Supplier: LCSC; Supplier Part Number: C2999587; Resistance: 249R; Tolerance: 1%; Power: 750mW
footprint RES SMD 2010
pins: 1, 2

## RES 2010 250mR 1%
designator C?, comment 250mR
250mR 1% 750mW 2010 Thick Film Resistor; Manufacturer: FOJAN; Manufacturer Part Number: FRL2010FR250TS; Voltage Rating: 500V; Supplier: LCSC; Supplier Part Number: C2934353; Resistance: 250mR; Tolerance: 1%; Power: 750mW
footprint RES SMD 2010
pins: 1, 2

## RES 2010 250mR 5%
designator C?, comment 250mR
250mR 5% 750mW 2010 Thick Film Resistor; Manufacturer: FOJAN; Manufacturer Part Number: FRL2010JR250TS; Voltage Rating: 500V; Supplier: LCSC; Supplier Part Number: C2934359; Resistance: 250mR; Tolerance: 5%; Power: 750mW
footprint RES SMD 2010
pins: 1, 2

## RES 2010 255R 1%
designator C?, comment 255R
255R 750mW 200V Thick Film Resistor 1% 2010 Chip Resistor - Surface Mount RoHS; Manufacturer: FOJAN; Manufacturer Part Number: FRC2010F2550TS; Supplier: LCSC; Supplier Part Number: C51048122; Resistance: 255R; Tolerance: 1%; Voltage Rating: 200V; Power: 750mW
footprint RES SMD 2010
pins: 1, 2

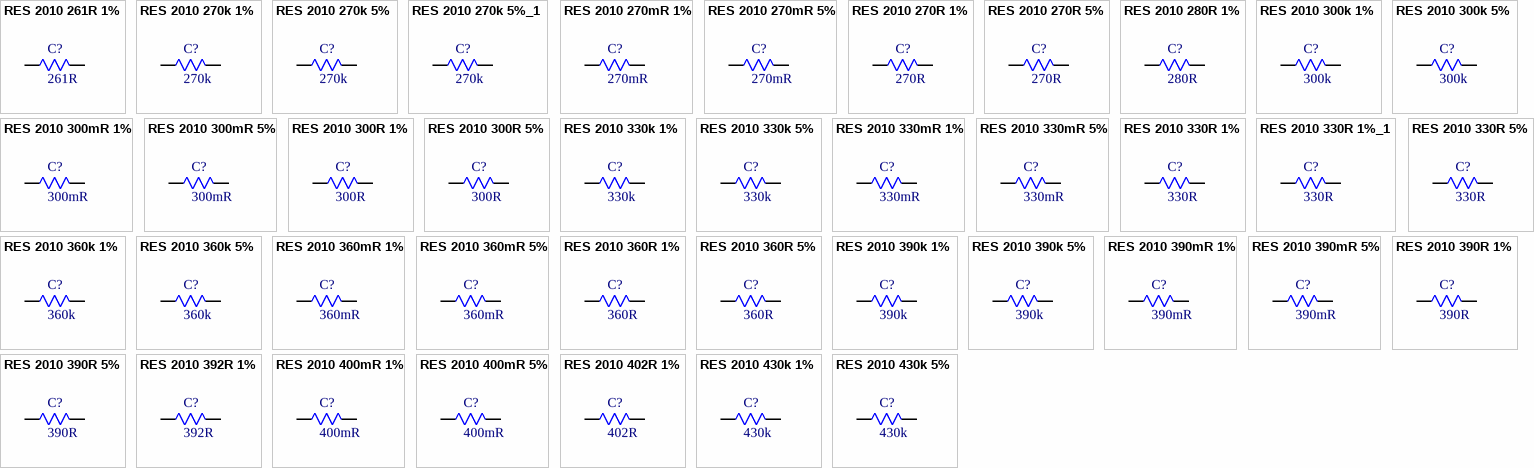
[diagram p107: symbols RES 2010 261R 1% to RES 2010 430k 5%]

## RES 2010 261R 1%
designator C?, comment 261R
750mW 261R 200V Thick Film Resistor 1% 2010 Chip Resistor - Surface Mount RoHS; Manufacturer: FOJAN; Manufacturer Part Number: FRC2010F2610TS; Supplier: LCSC; Supplier Part Number: C51048281; Resistance: 261R; Tolerance: 1%; Voltage Rating: 200V; Power: 750mW
footprint RES SMD 2010
pins: 1, 2

## RES 2010 270k 1%
designator C?, comment 270k
270kR 1% 750mW 2010 Thick Film Resistor; Manufacturer: FOJAN; Manufacturer Part Number: FRC2010F2703TS; Voltage Rating: 200V; Supplier: LCSC; Supplier Part Number: C2974100; Resistance: 270k; Tolerance: 1%; Power: 750mW
footprint RES SMD 2010
pins: 1, 2

## RES 2010 270k 5%
designator C?, comment 270k
270kR 5% 750mW 2010 Thick Film Resistor; Manufacturer: FOJAN; Manufacturer Part Number: FRC2010J274TS; Voltage Rating: 200V; Supplier: LCSC; Supplier Part Number: C5379855; Resistance: 270k; Tolerance: 5%; Power: 750mW
footprint RES SMD 2010
pins: 1, 2

## RES 2010 270k 5%_1
designator C?, comment 270k
270kR 5% 1W 2010 Thick Film Resistor; Manufacturer: FOJAN; Manufacturer Part Number: FRP2010J274 TS; Voltage Rating: 200V; Supplier: LCSC; Supplier Part Number: C3013379; Resistance: 270k; Tolerance: 5%; Power: 1W
footprint RES SMD 2010
pins: 1, 2

## RES 2010 270mR 1%
designator C?, comment 270mR
270mR 1% 750mW 2010 Thick Film Resistor; Manufacturer: FOJAN; Manufacturer Part Number: FRL2010FR270TS; Voltage Rating: 500V; Supplier: LCSC; Supplier Part Number: C3013366; Resistance: 270mR; Tolerance: 1%; Power: 750mW
footprint RES SMD 2010
pins: 1, 2

## RES 2010 270mR 5%
designator C?, comment 270mR
270mR 5% 750mW 2010 Thick Film Resistor; Manufacturer: FOJAN; Manufacturer Part Number: FRL2010JR270TS; Voltage Rating: 500V; Supplier: LCSC; Supplier Part Number: C2974130; Resistance: 270mR; Tolerance: 5%; Power: 750mW
footprint RES SMD 2010
pins: 1, 2

## RES 2010 270R 1%
designator C?, comment 270R
270R 1% 750mW 2010 Thick Film Resistor; Manufacturer: FOJAN; Manufacturer Part Number: FRC2010F2700TS; Voltage Rating: 200V; Supplier: LCSC; Supplier Part Number: C2960894; Resistance: 270R; Tolerance: 1%; Power: 750mW
footprint RES SMD 2010
pins: 1, 2

## RES 2010 270R 5%
designator C?, comment 270R
270R 5% 750mW 2010 Thick Film Resistor; Manufacturer: FOJAN; Manufacturer Part Number: FRC2010J271 TS; Voltage Rating: 200V; Supplier: LCSC; Supplier Part Number: C2934017; Resistance: 270R; Tolerance: 5%; Power: 750mW
footprint RES SMD 2010
pins: 1, 2

## RES 2010 280R 1%
designator C?, comment 280R
280R 750mW 200V Thick Film Resistor 100ppm/â„ƒ 1% 2010 Chip Resistor - Surface Mount RoHS; Manufacturer: FOJAN; Manufacturer Part Number: FRC2010F2800TS; Supplier: LCSC; Supplier Part Number: C48533625; Resistance: 280R; Tolerance: 1%; Voltage Rating: 200V; Power: 750mW
footprint RES SMD 2010
pins: 1, 2

## RES 2010 300k 1%
designator C?, comment 300k
300kR 750mW 200V Thick Film Resistor 1% 100ppm/â„ƒ 2010 Chip Resistor - Surface Mount RoHS; Manufacturer: FOJAN; Manufacturer Part Number: FRC2010F3003TS; Supplier: LCSC; Supplier Part Number: C7467352; Resistance: 300k; Tolerance: 1%; Voltage Rating: 200V; Power: 750mW
footprint RES SMD 2010
pins: 1, 2

## RES 2010 300k 5%
designator C?, comment 300k
300kR 5% 750mW 2010 Thick Film Resistor; Manufacturer: FOJAN; Manufacturer Part Number: FRC2010J304TS; Voltage Rating: 200V; Supplier: LCSC; Supplier Part Number: C3000576; Resistance: 300k; Tolerance: 5%; Power: 750mW
footprint RES SMD 2010
pins: 1, 2

## RES 2010 300mR 1%
designator C?, comment 300mR
300mR 1% 750mW 2010 Thick Film Resistor; Manufacturer: FOJAN; Manufacturer Part Number: FRL2010FR300TS; Voltage Rating: 500V; Supplier: LCSC; Supplier Part Number: C5126120; Resistance: 300mR; Tolerance: 1%; Power: 750mW
footprint RES SMD 2010
pins: 1, 2

## RES 2010 300mR 5%
designator C?, comment 300mR
300mR 5% 750mW 2010 Thick Film Resistor; Manufacturer: FOJAN; Manufacturer Part Number: FRL2010JR300TS; Voltage Rating: 500V; Supplier: LCSC; Supplier Part Number: C2960850; Resistance: 300mR; Tolerance: 5%; Power: 750mW
footprint RES SMD 2010
pins: 1, 2

## RES 2010 300R 1%
designator C?, comment 300R
300R 1% 750mW 2010 Thick Film Resistor; Manufacturer: FOJAN; Manufacturer Part Number: FRC2010F3000TS; Voltage Rating: 200V; Supplier: LCSC; Supplier Part Number: C5126117; Resistance: 300R; Tolerance: 1%; Power: 750mW
footprint RES SMD 2010
pins: 1, 2

## RES 2010 300R 5%
designator C?, comment 300R
300R 5% 750mW 2010 Thick Film Resistor; Manufacturer: FOJAN; Manufacturer Part Number: FRC2010J301 TS; Voltage Rating: 200V; Supplier: LCSC; Supplier Part Number: C2934021; Resistance: 300R; Tolerance: 5%; Power: 750mW
footprint RES SMD 2010
pins: 1, 2

## RES 2010 330k 1%
designator C?, comment 330k
750mW 330kR 200V Thick Film Resistor 1% 100ppm/â„ƒ 2010 Chip Resistor - Surface Mount RoHS; Manufacturer: FOJAN; Manufacturer Part Number: FRC2010F3303TS; Supplier: LCSC; Supplier Part Number: C7467366; Resistance: 330k; Tolerance: 1%; Voltage Rating: 200V; Power: 750mW
footprint RES SMD 2010
pins: 1, 2

## RES 2010 330k 5%
designator C?, comment 330k
330kR 5% 750mW 2010 Thick Film Resistor; Manufacturer: FOJAN; Manufacturer Part Number: FRC2010J334 TS; Voltage Rating: 200V; Supplier: LCSC; Supplier Part Number: C2960833; Resistance: 330k; Tolerance: 5%; Power: 750mW
footprint RES SMD 2010
pins: 1, 2

## RES 2010 330mR 1%
designator C?, comment 330mR
330mR 1% 750mW 2010 Thick Film Resistor; Manufacturer: FOJAN; Manufacturer Part Number: FRL2010FR330TS; Voltage Rating: 500V; Supplier: LCSC; Supplier Part Number: C3000768; Resistance: 330mR; Tolerance: 1%; Power: 750mW
footprint RES SMD 2010
pins: 1, 2

## RES 2010 330mR 5%
designator C?, comment 330mR
330mR 5% 750mW 2010 Thick Film Resistor; Manufacturer: FOJAN; Manufacturer Part Number: FRL2010JR330TS; Voltage Rating: 500V; Supplier: LCSC; Supplier Part Number: C3000790; Resistance: 330mR; Tolerance: 5%; Power: 750mW
footprint RES SMD 2010
pins: 1, 2

## RES 2010 330R 1%
designator C?, comment 330R
330R 1% 750mW 2010 Thick Film Resistor; Manufacturer: FOJAN; Manufacturer Part Number: FRC2010F3300TS; Voltage Rating: 200V; Supplier: LCSC; Supplier Part Number: C2999595; Resistance: 330R; Tolerance: 1%; Power: 750mW
footprint RES SMD 2010
pins: 1, 2

## RES 2010 330R 1%_1
designator C?, comment 330R
750mW 330R 200V Thick Film Resistor 1% 100ppm/â„ƒ 2010 Chip Resistor - Surface Mount RoHS; Manufacturer: FOJAN; Manufacturer Part Number: FRQ2010F3300TS; Supplier: LCSC; Supplier Part Number: C7468691; Resistance: 330R; Tolerance: 1%; Voltage Rating: 200V; Power: 750mW
footprint RES SMD 2010
pins: 1, 2

## RES 2010 330R 5%
designator C?, comment 330R
330R 5% 750mW 2010 Thick Film Resistor; Manufacturer: FOJAN; Manufacturer Part Number: FRC2010J331 TS; Voltage Rating: 200V; Supplier: LCSC; Supplier Part Number: C2960899; Resistance: 330R; Tolerance: 5%; Power: 750mW
footprint RES SMD 2010
pins: 1, 2

## RES 2010 360k 1%
designator C?, comment 360k
360kR 750mW 200V Thick Film Resistor 1% 100ppm/â„ƒ 2010 Chip Resistor - Surface Mount RoHS; Manufacturer: FOJAN; Manufacturer Part Number: FRC2010F3603TS; Supplier: LCSC; Supplier Part Number: C7467406; Resistance: 360k; Tolerance: 1%; Voltage Rating: 200V; Power: 750mW
footprint RES SMD 2010
pins: 1, 2

## RES 2010 360k 5%
designator C?, comment 360k
360kR 750mW 200V Thick Film Resistor 5% 100ppm/â„ƒ 2010 Chip Resistor - Surface Mount RoHS; Manufacturer: FOJAN; Manufacturer Part Number: FRC2010J364 TS; Supplier: LCSC; Supplier Part Number: C7467354; Resistance: 360k; Tolerance: 5%; Voltage Rating: 200V; Power: 750mW
footprint RES SMD 2010
pins: 1, 2

## RES 2010 360mR 1%
designator C?, comment 360mR
360mR 1% 750mW 2010 Thick Film Resistor; Manufacturer: FOJAN; Manufacturer Part Number: FRL2010FR360TS; Voltage Rating: 500V; Supplier: LCSC; Supplier Part Number: C2974125; Resistance: 360mR; Tolerance: 1%; Power: 750mW
footprint RES SMD 2010
pins: 1, 2

## RES 2010 360mR 5%
designator C?, comment 360mR
360mR 5% 750mW 2010 Thick Film Resistor; Manufacturer: FOJAN; Manufacturer Part Number: FRL2010JR360TS; Voltage Rating: 500V; Supplier: LCSC; Supplier Part Number: C2934360; Resistance: 360mR; Tolerance: 5%; Power: 750mW
footprint RES SMD 2010
pins: 1, 2

## RES 2010 360R 1%
designator C?, comment 360R
360R 1% 750mW 2010 Thick Film Resistor; Manufacturer: FOJAN; Manufacturer Part Number: FRC2010F3600TS; Voltage Rating: 200V; Supplier: LCSC; Supplier Part Number: C5126172; Resistance: 360R; Tolerance: 1%; Power: 750mW
footprint RES SMD 2010
pins: 1, 2

## RES 2010 360R 5%
designator C?, comment 360R
360R 5% 750mW 2010 Thick Film Resistor; Manufacturer: FOJAN; Manufacturer Part Number: FRC2010J361 TS; Voltage Rating: 200V; Supplier: LCSC; Supplier Part Number: C2960825; Resistance: 360R; Tolerance: 5%; Power: 750mW
footprint RES SMD 2010
pins: 1, 2

## RES 2010 390k 1%
designator C?, comment 390k
390kR 750mW 200V Thick Film Resistor 1% 100ppm/â„ƒ 2010 Chip Resistor - Surface Mount RoHS; Manufacturer: FOJAN; Manufacturer Part Number: FRC2010F3903TS; Supplier: LCSC; Supplier Part Number: C7467407; Resistance: 390k; Tolerance: 1%; Voltage Rating: 200V; Power: 750mW
footprint RES SMD 2010
pins: 1, 2

## RES 2010 390k 5%
designator C?, comment 390k
390kR 5% 750mW 2010 Thick Film Resistor; Manufacturer: FOJAN; Manufacturer Part Number: FRC2010J394 TS; Voltage Rating: 200V; Supplier: LCSC; Supplier Part Number: C2934027; Resistance: 390k; Tolerance: 5%; Power: 750mW
footprint RES SMD 2010
pins: 1, 2

## RES 2010 390mR 1%
designator C?, comment 390mR
390mR 1% 750mW 2010 Thick Film Resistor; Manufacturer: FOJAN; Manufacturer Part Number: FRL2010FR390TS; Voltage Rating: 500V; Supplier: LCSC; Supplier Part Number: C2934354; Resistance: 390mR; Tolerance: 1%; Power: 750mW
footprint RES SMD 2010
pins: 1, 2

## RES 2010 390mR 5%
designator C?, comment 390mR
390mR 5% 750mW 2010 Thick Film Resistor; Manufacturer: FOJAN; Manufacturer Part Number: FRL2010JR390TS; Voltage Rating: 500V; Supplier: LCSC; Supplier Part Number: C2934361; Resistance: 390mR; Tolerance: 5%; Power: 750mW
footprint RES SMD 2010
pins: 1, 2

## RES 2010 390R 1%
designator C?, comment 390R
390R 1% 750mW 2010 Thick Film Resistor; Manufacturer: FOJAN; Manufacturer Part Number: FRC2010F3900TS; Voltage Rating: 200V; Supplier: LCSC; Supplier Part Number: C3013304; Resistance: 390R; Tolerance: 1%; Power: 750mW
footprint RES SMD 2010
pins: 1, 2

## RES 2010 390R 5%
designator C?, comment 390R
390R 5% 750mW 2010 Thick Film Resistor; Manufacturer: FOJAN; Manufacturer Part Number: FRC2010J391 TS; Voltage Rating: 200V; Supplier: LCSC; Supplier Part Number: C2960885; Resistance: 390R; Tolerance: 5%; Power: 750mW
footprint RES SMD 2010
pins: 1, 2

## RES 2010 392R 1%
designator C?, comment 392R
750mW 392R 200V Thick Film Resistor 100ppm/â„ƒ 1% 2010 Chip Resistor - Surface Mount RoHS; Manufacturer: FOJAN; Manufacturer Part Number: FRC2010F3920TS; Supplier: LCSC; Supplier Part Number: C49196890; Resistance: 392R; Tolerance: 1%; Voltage Rating: 200V; Power: 750mW
footprint RES SMD 2010
pins: 1, 2

## RES 2010 400mR 1%
designator C?, comment 400mR
400mR 1% 750mW 2010 Thick Film Resistor; Manufacturer: FOJAN; Manufacturer Part Number: FRL2010FR400TS; Voltage Rating: 500V; Supplier: LCSC; Supplier Part Number: C2999599; Resistance: 400mR; Tolerance: 1%; Power: 750mW
footprint RES SMD 2010
pins: 1, 2

## RES 2010 400mR 5%
designator C?, comment 400mR
400mR 5% 750mW 2010 Thick Film Resistor; Manufacturer: FOJAN; Manufacturer Part Number: FRL2010JR400TS; Voltage Rating: 500V; Supplier: LCSC; Supplier Part Number: C3000791; Resistance: 400mR; Tolerance: 5%; Power: 750mW
footprint RES SMD 2010
pins: 1, 2

## RES 2010 402R 1%
designator C?, comment 402R
750mW 402R 200V Thick Film Resistor 100ppm/â„ƒ 1% 2010 Chip Resistor - Surface Mount RoHS; Manufacturer: FOJAN; Manufacturer Part Number: FRC2010F4020TS; Supplier: LCSC; Supplier Part Number: C49196915; Resistance: 402R; Tolerance: 1%; Voltage Rating: 200V; Power: 750mW
footprint RES SMD 2010
pins: 1, 2

## RES 2010 430k 1%
designator C?, comment 430k
750mW 430kR 200V Thick Film Resistor 1% 2010 Chip Resistor - Surface Mount RoHS; Manufacturer: FOJAN; Manufacturer Part Number: FRC2010F4303TS; Supplier: LCSC; Supplier Part Number: C51048131; Resistance: 430k; Tolerance: 1%; Voltage Rating: 200V; Power: 750mW
footprint RES SMD 2010
pins: 1, 2